# Altium footprint library PCB - POWER INDUCTORS - WURTH WE-LQSH 4020.PcbLib: 1 footprints
Each footprint in its own frame and in the unit in brackets; x right, y up, seen from the top. Pads: shape width x height; smd on the part's side, far side on the other; paste and mask are expansions set on the pad; w line width, h text height; cw(c..) or ccw(c..) is an arc to the next point about the centre after c.
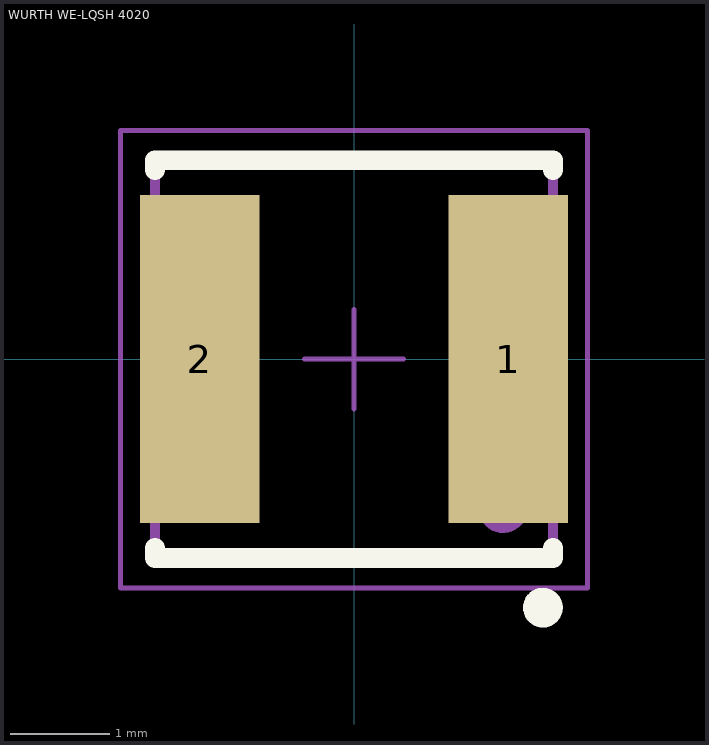
[diagram p0: the footprint, top view; thin cyan lines are the x and y axes]

## WURTH WE-LQSH 4020 [mm] "SMT Semi-Shielded High Saturation Power Inductor, body 4x4mm"
height 2
pads (2):
  rect 1.2x3.3 smd: 1(1.55,0) 2(-1.55,0)
Top Overlay:
  circle w0.2: c1.9,-2.5 r0.1
  lines w0.2: -2,-1.9 -2,-2 2,-2 2,-1.9 ; -2,1.9 -2,2 2,2 2,1.9
Top Assembly:
  circle w0.1: c1.5,-1.5 r0.2
  lines w0.05: -0.5,0 0.5,0 ; 0,-0.5 0,0.5
  lines w0.1: -2,-2 -2,2 2,2 2,-2 -2,-2
Top Component Outline:
  circle w0.1: c1.5,-1.5 r0.2
  lines w0.1: -2,-2 -2,2 2,2 2,-2 -2,-2
Top Courtyard:
  lines w0.05: -2.35,-2.3 -2.35,2.3 2.35,2.3 2.35,-2.3 -2.35,-2.3
3D body "IndLQSH_4020.stp": height 2.01, standoff 0.02, extent -2,-2.02 2,2